# Altium footprint library FG28C0G1H100DNT06.PcbLib: 1 footprints
Each footprint in its own frame and in the unit in brackets; x right, y up, seen from the top. Pads: shape width x height; smd on the part's side, far side on the other; paste and mask are expansions set on the pad; w line width, h text height; cw(c..) or ccw(c..) is an arc to the next point about the centre after c.
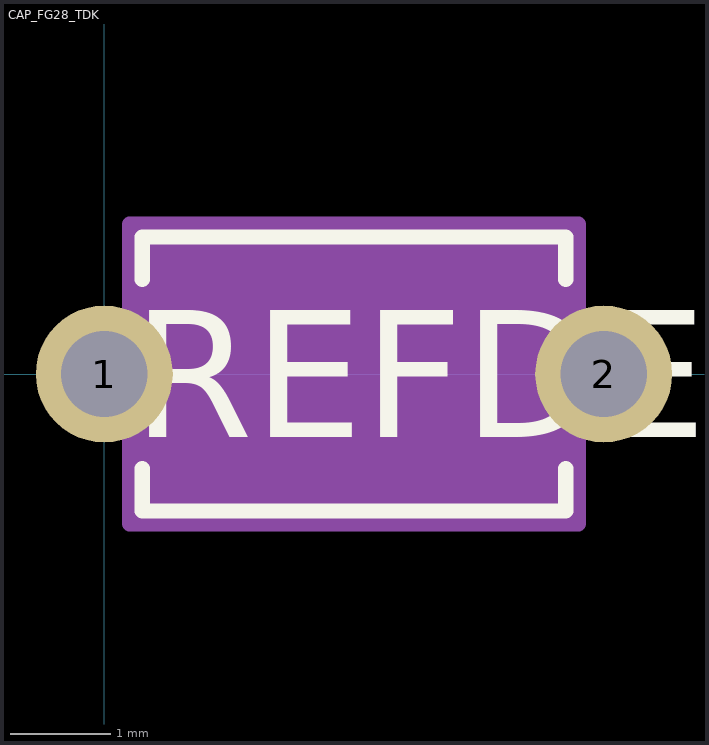
[diagram p0: the footprint, top view; thin cyan lines are the x and y axes]

## CAP_FG28_TDK [mil]
pads (2):
  round 54 / inner round 60 / far side round 54 hole 34 paste-27 mask+0: 1(0,0) 2(196.85,0)
Top Overlay:
  lines w6: 14.93,-37.22 14.93,-54 181.93,-54 181.93,-37.22 ; 14.93,37.22 14.93,54 181.93,54 181.93,37.22
  text "REFDES" at 10.93,-25 h50
Mechanical 13:
  circle w0: c39.93,0 r0
  lines w1: 19.93,-49 176.93,-49 176.93,49 19.93,49 19.93,-49
  text "RefDes2" at 10.93,-25 h50
Mechanical 15:
  region: 186.93,-59 9.93,-59 9.93,59 186.93,59
  lines w6: 9.93,-59 9.93,59 186.93,59 186.93,-59 9.93,-59
3D body "CAP_FG28_TDK.step": height 217.01, standoff -172.01, extent -35.98,-49.02 208.86,49.02